# Altium integrated library pca10056.IntLib: 67 symbols
Pins are listed as number, name and electrical type; pins without a type are passive.

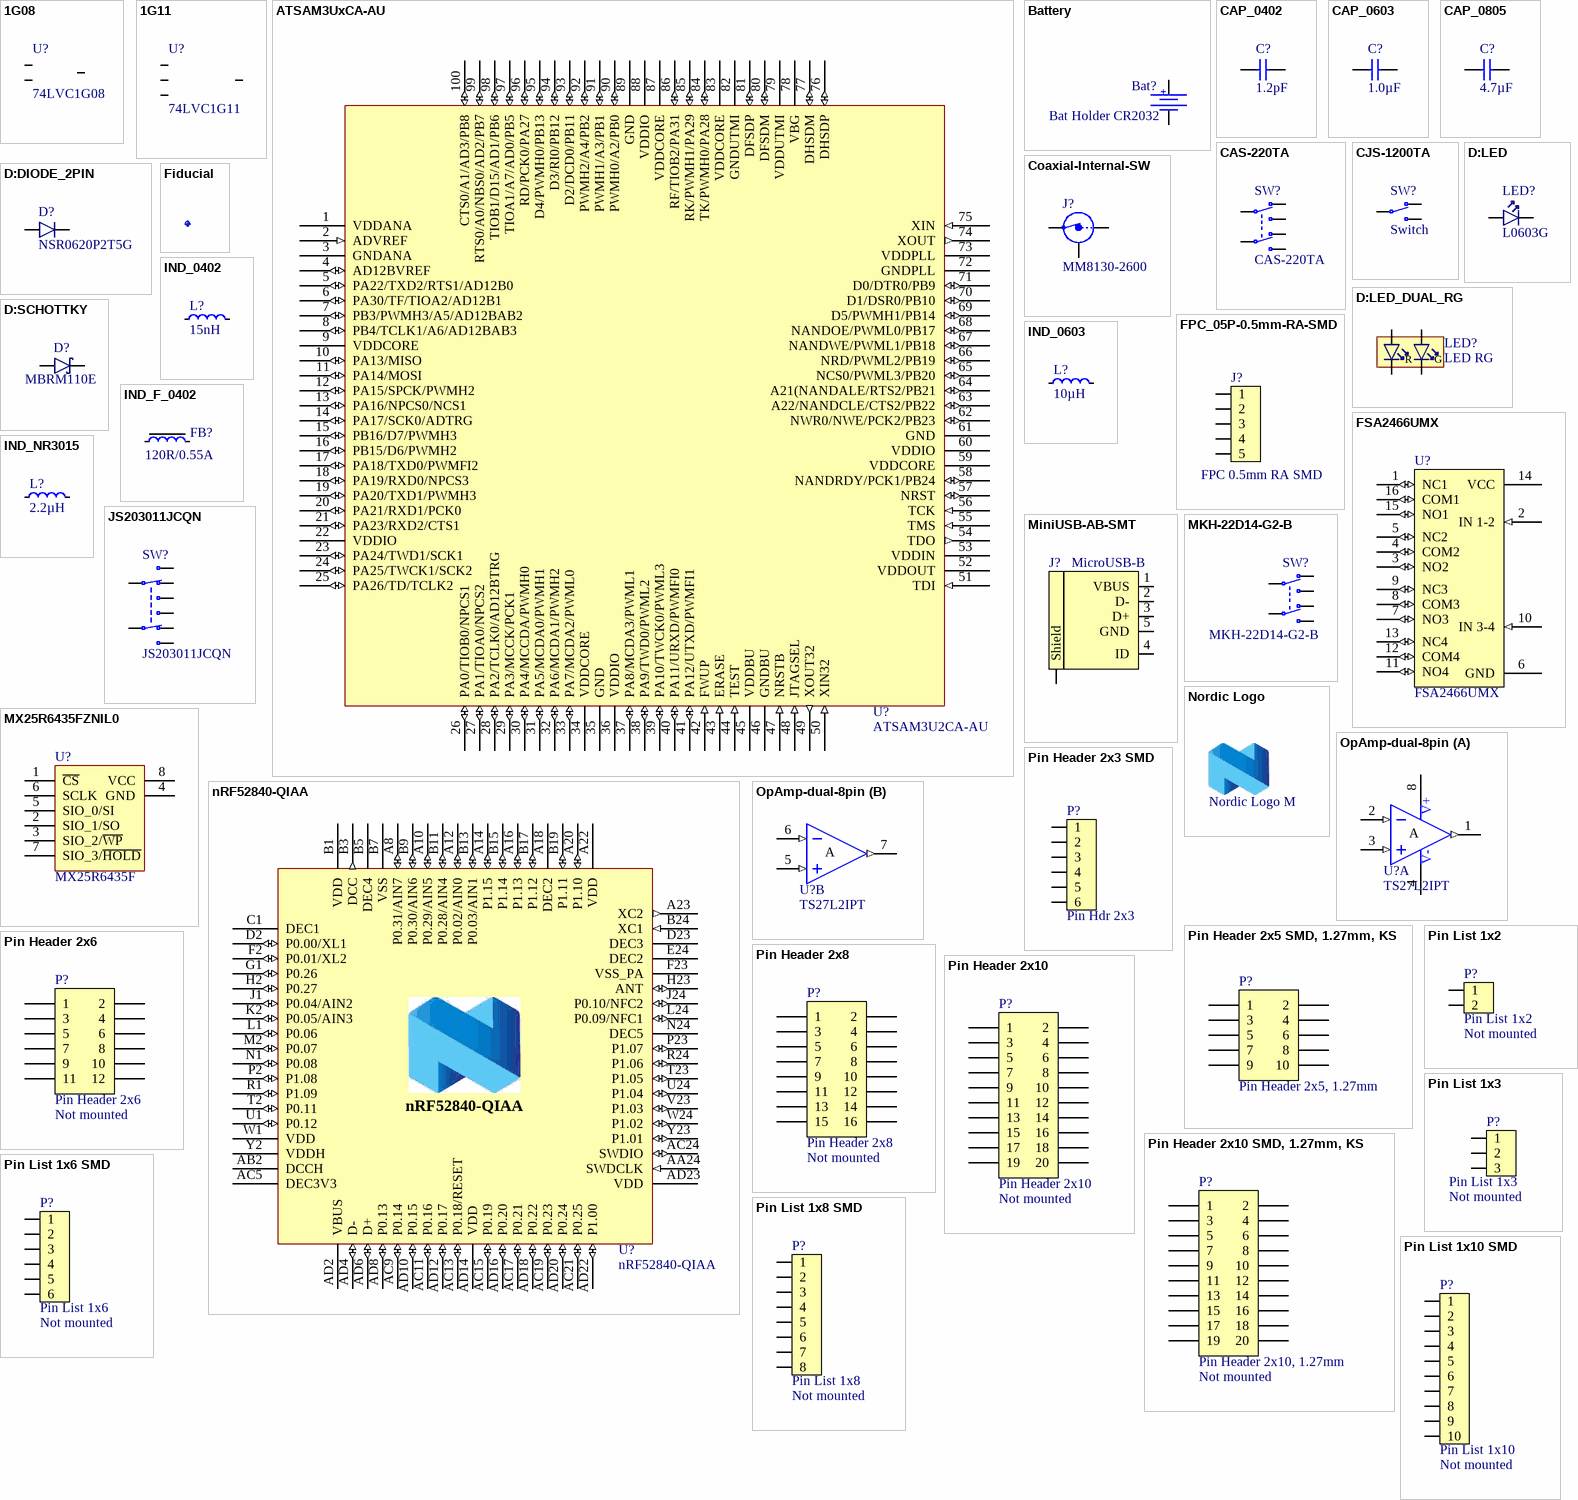
[diagram p0: symbols 1G08 to Pin List 1x10 SMD]

## 1G08
designator U?, comment 74LVC1G08
Single 2-Input AND Gate; Part Number: 74LVC1G08GW; Manufacturer: NXP Semiconductors; 2nd source part number: 242-8299; Artikkelnr Noca: 15049058; Artikkelnr Simpro: N.A.; Manufacturer Part Number: 74LVC1G08GW; Datasheet: http://www.nxp.com/documents/data_sheet/74LVC1G08.pdf; Footprint Doc: SC70-5; LatestRevisionDate: 2016-10-18; Pin Count: 5; Publisher: Nordic Semiconductor; Published: 2016-10-18; Value: 74LVC1G08; Note: Single 2-Input AND Gate; Supplier: Digi-Key; Supplier part number: 568-1580-1-ND; 2nd source Supplier: Farnell
footprint SOT65P210X100-5N
pins: 1 A, 2 B, 3 GND (power) hidden to GND "Ground", 4 Y, 5 VCC (power) hidden to VSUPPLY

## 1G11
designator U?, comment 74LVC1G11
Single 3-input AND gate; Part Number: 74LVC1G11GW; Manufacturer: NXP Semiconductors; 2nd source part number: 243-8826; Artikkelnr Noca: 15079348; Artikkelnr Simpro: N.A.; Manufacturer Part Number: 74LVC1G11GW; Datasheet: http://www.nxp.com/documents/data_sheet/74LVC1G11.pdf; Footprint Doc: SC70-6; LatestRevisionDate: 2016-10-18; Pin Count: 6; Publisher: Nordic Semiconductor; Published: 2016-10-18; Value: 74LVC1G11; Note: Single 3-input AND gate; Supplier: Digi-Key; Supplier part number: 568-7757-1-ND; 2nd source Supplier: Farnell
footprint SOT65P210X100-6N
pins: 1 A, 2 GND (power) hidden to GND "Ground", 3 B, 4 Y, 5 VCC (power) hidden to VSUPPLY, 6 C

## ATSAM3UxCA-AU
designator U?, comment ATSAM3U2CA-AU
IC MCU 32bit 128kB flash 100LQFP; Manufacturer: Atmel; 2nd source part number: 184-1662; Artikkelnr Noca: 15019073; Artikkelnr Simpro: N.A.; Part Number: ATSAM3U2CA-AU; Manufacturer Part Number: ATSAM3U2CA-AU; Datasheet: http://www.atmel.com/Images/6430s.pdf; LatestRevisionDate: 2012-06-01; Pin Count: 100; Publisher: Nordic Semiconductor; Published: 2012-06-01; Value: ATSAM3U2CA-AU; Note: *; Supplier: Digi-Key; Supplier part number: ATSAM3U2CA-AU-ND; 2nd source Supplier: Farnell; Footprint Doc: LQFP-100
footprint TSQFP50P1600X1600X160-100N
pins: 1 VDDANA (power), 2 ADVREF (in), 3 GNDANA (power), 4 AD12BVREF (io), 5 PA22/TXD2/RTS1/AD12B0 (io), 6 PA30/TF/TIOA2/AD12B1 (io), 7 PB3/PWMH3/A5/AD12BAB2 (io), 8 PB4/TCLK1/A6/AD12BAB3 (io), 9 VDDCORE (power), 10 PA13/MISO (io), 11 PA14/MOSI (io), 12 PA15/SPCK/PWMH2 (io), 13 PA16/NPCS0/NCS1 (io), 14 PA17/SCK0/ADTRG (io), 15 PB16/D7/PWMH3 (io), 16 PB15/D6/PWMH2 (io), 17 PA18/TXD0/PWMFI2 (io), 18 PA19/RXD0/NPCS3 (io), 19 PA20/TXD1/PWMH3 (io), 20 PA21/RXD1/PCK0 (io), 21 PA23/RXD2/CTS1 (io), 22 VDDIO (power), 23 PA24/TWD1/SCK1 (io), 24 PA25/TWCK1/SCK2 (io), 25 PA26/TD/TCLK2 (io), 26 PA0/TIOB0/NPCS1 (io), 27 PA1/TIOA0/NPCS2 (io), 28 PA2/TCLK0/AD12BTRG (io), 29 PA3/MCCK/PCK1 (io), 30 PA4/MCCDA/PWMH0 (io), 31 PA5/MCDA0/PWMH1 (io), 32 PA6/MCDA1/PWMH2 (io), 33 PA7/MCDA2/PWML0 (io), 34 VDDCORE (power), 35 GND (power), 36 VDDIO (power), 37 PA8/MCDA3/PWML1 (io), 38 PA9/TWD0/PWML2 (io), 39 PA10/TWCK0/PWML3 (io), 40 PA11/URXD/PWMFI0 (io), 41 PA12/UTXD/PWMFI1 (io), 42 FWUP (in), 43 ERASE (in), 44 TEST (in), 45 VDDBU (power), 46 GNDBU (power), 47 NRSTB (in), 48 JTAGSEL (in), 49 XOUT32 (out), 50 XIN32 (in), 51 TDI (in), 52 VDDOUT (power), 53 VDDIN (power), 54 TDO (out), 55 TMS (in), 56 TCK (in), 57 NRST (io), 58 NANDRDY/PCK1/PB24 (io), 59 VDDCORE (power), 60 VDDIO (power), 61 GND (power), 62 NWR0/NWE/PCK2/PB23 (io), 63 A22/NANDCLE/CTS2/PB22 (io), 64 A21(NANDALE/RTS2/PB21 (io), 65 NCS0/PWML3/PB20 (io), 66 NRD/PWML2/PB19 (io), 67 NANDWE/PWML1/PB18 (io), 68 NANDOE/PWML0/PB17 (io), 69 D5/PWMH1/PB14 (io), 70 D1/DSR0/PB10 (io), 71 D0/DTR0/PB9 (io), 72 GNDPLL (power), 73 VDDPLL (power), 74 XOUT (out), 75 XIN (in), 76 DHSDP (io), 77 DHSDM (io), 78 VBG (power), 79 VDDUTMI (power), 80 DFSDM (io), 81 DFSDP (io), 82 GNDUTMI (power), 83 VDDCORE (power), 84 TK/PWMH0/PA28 (io), 85 RK/PWMH1/PA29 (io), 86 RF/TIOB2/PA31 (io), 87 VDDCORE (power), 88 VDDIO (power), 89 GND (power), 90 PWMH0/A2/PB0 (io), 91 PWMH1/A3/PB1 (io), 92 PWMH2/A4/PB2 (io), 93 D2/DCD0/PB11 (io), 94 D3/RI0/PB12 (io), 95 D4/PWMH0/PB13 (io), 96 RD/PCK0/PA27 (io), 97 TIOA1/A7/AD0/PB5 (io), 98 TIOB1/D15/AD1/PB6 (io), 99 RTS0/A0/NBS0/AD2/PB7 (io), 100 CTS0/A1/AD3/PB8 (io)

## Battery
designator Bat?, comment Bat Holder CR2032
Bat Holder CR2032 SMD; Manufacturer: Comfortable; Manufacturer Part Number: BC-2001; 2nd source part number: 165-0693; Artikkelnr Noca: 55089011; Artikkelnr Simpro: N.A.; Part Number: Bat Holder CR2032 SMD; Datasheet: \\hizz\pro\app9717\Datasheet\connectores\Comfortable\BC-2001.pdf; Footprint Doc: CR2032_HOLDER_SMD; LatestRevisionDate: 2016-04-21; Pin Count: 3; Publisher: Nordic Semiconductor; Published: 2009-12-12; Value: Bat Holder CR2032; Note: Bat Holder CR2032; Supplier: Cabcon; Supplier part number: BC-2001/T & R; 2nd source Supplier: Farnell
footprint CR2032_HOLDER_SMD
pins: 1, 2
text: +

## CAP_0402
designator C?, comment 1.2pF
Capacitor, NP0, ±0.1pF; Part Number: C0402-1.2p; Part number IPS: 00000005410; Note: 50V; Artikkelnr Noca: 20029157; Artikkelnr Simpro: N.A.; Manufacturer: *; Manufacturer Part Number: *; Datasheet: *; LatestRevisionDate: 2011-05-11; Pin Count: 2; Publisher: Nordic Semiconductor; Published: 2009-05-08; Value: 1.2pF; Supplier: *; Supplier part number: *; 2nd source Supplier: *; 2nd source part number: *; Footprint Doc: 0402
footprint CAPC1005X04L
pins: 1, 2

## CAP_0603
designator C?, comment 1.0µF
Capacitor, X7R, ±10%; Part Number: C0603-1µ0; Part number IPS: 00000000616; Note: 16V; Artikkelnr Noca: 20039335; Artikkelnr Simpro: N.A.; Manufacturer: *; Manufacturer Part Number: *; Datasheet: *; LatestRevisionDate: 2013-06-05; Pin Count: 2; Publisher: Nordic Semiconductor; Published: 2009-05-08; Value: 1.0µF; Supplier: *; Supplier part number: *; 2nd source Supplier: *; 2nd source part number: *; Footprint Doc: 0603
footprint CAPC1608X06L
pins: 1, 2

## CAP_0805
designator C?, comment 4.7µF
Capacitor, X5R, ±10%; Part Number: C0805-4µ7; Note: 16V; Artikkelnr Noca: 20039266; Artikkelnr Simpro: N.A.; Manufacturer: *; Manufacturer Part Number: *; Datasheet: *; Footprint Doc: 0805; LatestRevisionDate: 2013-06-04; Pin Count: 2; Publisher: Nordic Semiconductor; Published: 2009-08-21; Value: 4.7µF; Supplier: *; Supplier part number: *; 2nd source Supplier: *; 2nd source part number: *
footprint CAPC2012X11L
pins: 1, 2

## CAS-220TA
designator SW?
Slide Switch DPDT J Hook; Manufacturer: Copal Electronics Inc; Artikkelnr Noca: 50019042; Artikkelnr Simpro: N.A.; Part Number: CAS-220TA; Manufacturer Part Number: CAS-220TA; Datasheet: http://media.digikey.com/pdf/Data%20Sheets/COPAL%20Electronics%20PDFs/CAS%20SMD%20Slide%20Switch.pdf; Footprint Doc: CAS-220TA; LatestRevisionDate: 2010-02-18; Pin Count: 6; Publisher: Nordic Semiconductor; Published: 2010-02-18; Value: CAS-220TA; Note: *; Supplier: Digi-Key; Supplier part number: CAS220JTR-ND; 2nd source Supplier: *; 2nd source part number: *
footprint CAS-220TA
pins: 1 N.O-1, 2 COM-1, 3 N.C-1, 4 N.O-2, 5 COM-2, 6 N.C-2

## CJS-1200TA
designator SW?, comment Switch
SMD slide Switch (ON-ON); Part Number: CJS-1200TA; Manufacturer: Copal Electronics Inc; Artikkelnr Noca: 50019068; Artikkelnr Simpro: N.A.; Manufacturer Part Number: CJS-1200TA; Datasheet: http://media.digikey.com/pdf/Data%20Sheets/COPAL%20Electronics%20PDFs/CJS.pdf; Footprint Doc: CJS-120xA; LatestRevisionDate: 2012-10-03; Pin Count: 3; Publisher: Nordic Semiconductor; Published: 2012-10-03; Value: Switch; Note: *; Supplier: Digi-Key; Supplier part number: 563-1021-2-ND; 2nd source Supplier: *; 2nd source part number: *
footprint CJS-120xA
pins: 1 N.C, 2 COM, 3 N.O

## Coaxial-Internal-SW
designator J?, comment MM8130-2600
Coaxial Connector with Switch; Manufacturer: Murata; 2nd source part number: 81-MM8130-2600RA2; Artikkelnr Noca: 55029011; Artikkelnr Simpro: N.A.; Part Number: MM8130-2600; Manufacturer Part Number: MM8130-2600; Datasheet: http://www.murata.com/products/catalog/pdf/o33e.pdf; LatestRevisionDate: 2014-04-24; Pin Count: 3; Publisher: Nordic Semiconductor; Published: 2014-04-24; Value: MM8130-2600; Note: *; Supplier: Digi-Key; Supplier part number: 490-4981-1-ND; 2nd source Supplier: Mouser; Footprint Doc: COAXIAL-SWF
footprint COAXIAL-SWF
pins: 1 IN, 2 Shield, 3 OUT

## D:DIODE_2PIN
designator D?, comment NSR0620P2T5G
20V schottky barrier diode, Vf 350 mV @ 100 mA, Ir 2.0 µA @ 10 V, If 500 mA; Manufacturer: ON Semiconductor; Artikkelnr Noca: 10029169; Artikkelnr Simpro: N.A.; Part Number: NSR0620P2T5G; Manufacturer Part Number: NSR0620P2T5G; Datasheet: http://www.onsemi.com/pub_link/Collateral/NSR0620P2-D.PDF; LatestRevisionDate: 2016-07-07; Publisher: Nordic Semiconductor; Published: 2016-07-07; Value: NSR0620P2T5G; Note: *; Supplier: Digi-Key; Supplier part number: NSR0620P2T5GOSCT-ND; 2nd source Supplier: *; 2nd source part number: *; Footprint Doc: SOD-923
footprint SODFL100X40-2N
pins: 1 C, 2 A

## D:LED
designator LED?, comment L0603G
LED SMARTLED GREEN 570NM 0603; Part Number: LG L29K Smartled Green; Manufacturer: Osram; Manufacturer Part Number: LG L29K-G2J1-24-Z; 2nd source part number: 720-LGL29KG2J124Z; Note: 2,24..5.6 mcd, Vfmin=1.7V; Artikkelnr Noca: 13019147; Artikkelnr Simpro: N.A.; Datasheet: http://www.osram-os.com/Graphics/XPic2/00077107_0.pdf; Footprint Doc: 0603; LatestRevisionDate: 2016-08-26; Pin Count: 2; Publisher: Nordic Semiconductor; Published: 2014-10-28; Value: L0603G; Supplier: Digi-Key; Supplier part number: 475-2709-1-ND; 2nd source Supplier: Mouser
footprint LED_0603_G
pins: 1 C, 2 A

## D:LED_DUAL_RG
designator LED?, comment LED RG
Ultra bright AlInGaP Bi-Color LED; Part Number: LTST-C195KGJRKT; Manufacturer: Lite-On Inc; 2nd source part number: 859-LTST-C195KGJRKT; Artikkelnr Noca: 13019145; Artikkelnr Simpro: N.A.; Manufacturer Part Number: LTST-C195KGJRKT; Datasheet: http://media.digikey.com/pdf/Data%20Sheets/Lite-On%20PDFs/LTST-C195KGJRKT.pdf; LatestRevisionDate: 2013-02-11; Pin Count: 4; Publisher: Nordic Semiconductor; Published: 2012-07-05; Value: LED RG; Note: *; Supplier: Digi-Key; Supplier part number: 160-1452-1-ND; 2nd source Supplier: Mouser; Footprint Doc: LED_DUAL_0606
footprint LED_DUAL_0606
pins: 1 A2, 2 A1, 3 C2, 4 C1
text: R; G

## D:SCHOTTKY
designator D?, comment MBRM110E
Diode Schottky Vf=0.455V @ 100mA, Vr=10V, If=1000mA, Ir=1µA @ 10V; Manufacturer: ON Semiconductor; Manufacturer Part Number: MBRM110ET1G; 2nd source part number: 236-9429; Artikkelnr Noca: 10029172; Artikkelnr Simpro: N.A.; Part Number: MBRM110E; Datasheet: http://media.digikey.com/pdf/Data%20Sheets/ON%20Semiconductor%20PDFs/MBRM110E-D.pdf; Footprint Doc: DO-216AA; LatestRevisionDate: 2016-10-24; Publisher: Nordic Semiconductor; Published: 2016-10-24; Value: MBRM110E; Note: *; Supplier: Digi-Key; Supplier part number: MBRM110ET1GOSTR-ND; 2nd source Supplier: Farnell
footprint DO-216AA
pins: 1 A, 3 C

## Fiducial
designator Fid?, comment Fiducial mark  (value not drawn)
Part Number: Fid-Mark; Artikkelnr Noca: N.A.; Manufacturer: *; Manufacturer Part Number: *; Datasheet: *; LatestRevisionDate: 2009-12-12; Pin Count: 1; Publisher: Nordic Semiconductor; Published: 2009-12-12; Value: *; Note: *; Supplier: *; Supplier part number: *; 2nd source Supplier: *; 2nd source part number: *; Footprint Doc: Fiducial; Artikkelnr Simpro: N.A.
footprint Fiducial

## FPC_05P-0.5mm-RA-SMD
designator J?, comment FPC 0.5mm RA SMD
0.5mm FPC, 5P,Right Angle SMT,Double Contact,H=1.2mm,White, Tin plated; Part Number: FPC_05P-0.5mm-RA-SMD; Manufacturer: W-CON; Manufacturer Part Number: 5141-05RZDNWR01; 2nd source part number: WM9836CT-ND; Artikkelnr Noca: 55010020; Artikkelnr Simpro: N.A.; Datasheet: \\hizz\pro\app9717\Datasheet\connectores\W-CON\5141-XXRZDNXX0X.pdf; Footprint Doc: FPC_05P-0.5mm-RA-SMD; LatestRevisionDate: 2016-04-21; Pin Count: 7; Publisher: Nordic Semiconductor; Published: 2015-06-22; Value: FPC 0.5mm RA SMD; Note: *; Supplier: Cabcon; Supplier part number: 5141-05RZDNWR01; 2nd source Supplier: Digi-Key
footprint FPC_05P-0.5mm-RA-SMD
pins: 1, 2, 3, 4, 5

## FSA2466UMX
designator U?
Data / Audio Low-Voltage Dual DPDT Analog Switch; Manufacturer: Fairchild Semiconductor; 2nd source part number: 512-FSA2466UMX; Artikkelnr Noca: 15070069; Artikkelnr Simpro: N.A.; Part Number: FSA2466UMX; Manufacturer Part Number: FSA2466UMX; Datasheet: https://www.fairchildsemi.com/datasheets/FS/FSA2466.pdf; Footprint Doc: UFQFN-16; LatestRevisionDate: 2016-05-18; Pin Count: 16; Publisher: Nordic Semiconductor; Published: 2016-05-18; Value: FSA2466UMX; Note: *; Supplier: Digi-Key; Supplier part number: FSA2466UMXCT-ND; 2nd source Supplier: Mouser
footprint XQFN40P180X260X50-16N
pins: 1 NC1 (io), 2 IN 1-2 (in), 3 NO2 (io), 4 COM2 (io), 5 NC2 (io), 6 GND (power), 7 NO3 (io), 8 COM3 (io), 9 NC3 (io), 10 IN 3-4 (in), 11 NO4 (io), 12 COM4 (io), 13 NC4 (io), 14 VCC (power), 15 NO1 (io), 16 COM1 (io)

## IND_0402
designator L?, comment 15nH
Inductor, 320mA, ±5%; Part Number: L0402-15n; Manufacturer: Taiyo Yuden; Manufacturer Part Number: HK100515NJ-T; 2nd source part number: 658-1328; Note: High frequency chip inductor ±10%; Artikkelnr Noca: 33029323; Artikkelnr Simpro: N.A.; LatestRevisionDate: 2012-09-19; Pin Count: 2; Publisher: Nordic Semiconductor; Published: 2010-07-12; Value: 15nH; Supplier: Digi-Key; Datasheet: http://www.yuden.co.jp/productdata/catalog/en/mlci04_e.pdf; Supplier part number: 587-1521-1-ND; 2nd source Supplier: Farnell; Footprint Doc: 0402
footprint INDC1005X04L
pins: 1, 2

## IND_0603
designator L?, comment 10µH
Inductor, 80mA, ±10%; Part Number: L0603-10µ; Manufacturer: Taiyo Yuden; Manufacturer Part Number: LBMF1608T100K; 2nd source part number: 178-6105; Note: LBMF1608T100K 10µH 80mA 0603; Artikkelnr Noca: 33029314; Artikkelnr Simpro: N.A.; Datasheet: http://www.yuden.co.jp/ut/product/pdf/elb2_e.pdf; LatestRevisionDate: 2012-09-19; Pin Count: 2; Publisher: Nordic Semiconductor; Published: 2010-02-24; Value: 10µH; Supplier: Digi-Key; Supplier part number: 587-1714-1-ND; 2nd source Supplier: Farnell; Footprint Doc: 0603
footprint INDC1608X06L
pins: 1, 2

## IND_F_0402
designator FB?, comment 120R/0.55A
Ferrite Bead, 120 Ohm @ 100MHz, 500mA, 250 mOhm Max; Part Number: FB0402-120R@100M-500mA; Manufacturer: Murata; Manufacturer Part Number: BLM15AG121SN1D; 2nd source part number: 151-5760; Note: Chip EMIFIL Inductor Type Chip Ferrite Bead; Artikkelnr Noca: 33029317; Artikkelnr Simpro: N.A.; Datasheet: http://search.murata.co.jp/Ceramy/image/img/PDF/ENG/L0110S0100BLM15A_SN.pdf; Footprint Doc: 0402; LatestRevisionDate: 2014-01-10; Pin Count: 2; Publisher: Nordic Semiconductor; Published: 2011-11-14; Value: 120R/0.55A; Supplier: Digi-Key; Supplier part number: 490-1005-1-ND; 2nd source Supplier: Farnell
footprint INDC1005X04L
pins: 1, 2

## IND_NR3015
designator L?, comment 2.2µH
Ferrite Inductor, Shielded, 1,5A, 72mOhm; Part Number: NR3015-2µ2-1.5A-72mOhm; Manufacturer: Taiyo Yuden; Manufacturer Part Number: NR3015T2R2M; 2nd source part number: 188-5853; Artikkelnr Noca: 33029487; Artikkelnr Simpro: N.A.; Datasheet: http://www.yuden.co.jp/ut/product/category/inductor/NR3015T2R2M.pdf; Footprint Doc: 1212; LatestRevisionDate: 2014-01-22; Pin Count: 2; Publisher: Nordic Semiconductor; Published: 2014-01-22; Value: 2.2µH; Note: *; Supplier: Digi-Key; Supplier part number: 587-1648-1-ND; 2nd source Supplier: Farnell
footprint TY-NR3015
pins: 1, 2

## JS203011JCQN
designator SW?
Slide Switch DP3T 300mA 6V; Manufacturer: C&K Components; Artikkelnr Noca: 50019111; Artikkelnr Simpro: N.A.; Part Number: JS203011JCQN; Manufacturer Part Number: JS203011JCQN; Datasheet: http://www.ckswitches.com/media/1422/js.pdf; Footprint Doc: Switch-Slide-J-Lead-DP3T-13x3.5mm; LatestRevisionDate: 2016-10-05; Pin Count: 8; Publisher: Nordic Semiconductor; Published: 2016-10-05; Value: JS203011JCQN; Note: *; Supplier: Digi-Key; Supplier part number: CKN10725CT-ND; 2nd source Supplier: *; 2nd source part number: *
footprint Switch-Slide-J-Lead-DP3T-13x3.5mm
pins: 1 N.O, 2 N.C, 3 COM, 4 N.O, 5 N.O, 6 N.C, 7 COM, 8 N.O

## MiniUSB-AB-SMT
designator J?, comment MicroUSB-B
MicroUSB-B-SMT; Part Number: USB-Micro-B-RA-SMD-PiP; Manufacturer: Allen Creations Corp.; Manufacturer Part Number: AJU55-BS2111-L; 2nd source part number: 609-4616-1-ND; Artikkelnr Noca: 55029020; Artikkelnr Simpro: N.A.; Datasheet: \\hizz\pro\app9717\Datasheet\connectores\Allen Creations Corp\AJU-211.pdf; Footprint Doc: USB-Micro-B-RA-SMD-PiP; LatestRevisionDate: 2016-04-21; Pin Count: 5; Publisher: Nordic Semiconductor; Published: 2014-10-07; Value: MicroUSB-B; Note: *; Supplier: Cabcon; Supplier part number: AJU55-BS2111-L; 2nd source Supplier: Digi-Key
footprint USB-Micro-B-RA-SMD-PiP
pins: 1 VBUS (power), 2 D-, 3 D+, 4 ID, 5 GND (power), 6 Shield (power)

## MKH-22D14-G2-B
designator SW?
Slide Switch DPDT; Manufacturer: Dailywell; Artikkelnr Noca: 50019112; Artikkelnr Simpro: N.A.; Part Number: MKH-22D14-G2-B; Manufacturer Part Number: MKH-22D14-G2-B; Datasheet: \\hizz\pro\app9717\Datasheet\switches\Dailywell\MKH-22D14-G2-B.pdf; Footprint Doc: MKH-22D14-G2-B; LatestRevisionDate: 2016-08-18; Pin Count: 6; Publisher: Nordic Semiconductor; Published: 2016-08-18; Value: MKH-22D14-G2-B; Note: *; Supplier: *; Supplier part number: *; 2nd source Supplier: *; 2nd source part number: *
footprint MKH-22D14-G2-B
pins: 1 N.O-1, 2 COM-1, 3 N.C-1, 4 N.O-2, 5 COM-2, 6 N.C-2

## MX25R6435FZNIL0
designator U?, comment MX25R6435F
Ultra low power, 64M-bit, serial multi I/O flash memory; Part Number: MX25R6435FZNIL0; Manufacturer: Macronix; Artikkelnr Noca: 15020015; Artikkelnr Simpro: N.A.; Manufacturer Part Number: MX25R6435FZNIL0; Datasheet: http://www.macronix.com/Lists/Datasheet/Attachments/3881/MX25R6435F,%20Wide%20Range,%2064Mb,%20v1.3.pdf; Footprint Doc: WSON-8; LatestRevisionDate: 2016-06-29; Pin Count: 8; Publisher: Nordic Semiconductor; Published: 2016-06-29; Value: MX25R6435F; Note: *; Supplier: Future; Supplier part number: MX25R6435FZNIL0; 2nd source Supplier: Arrow; 2nd source part number: MX25R6435FZNIL0
footprint SON127P600X80_HS-9N
pins: 1 ~{CS}, 2 SIO_1/SO, 3 SIO_2/~{WP}, 4 GND, 5 SIO_0/SI, 6 SCLK, 7 SIO_3/~{HOLD}, 8 VCC, 9 GND hidden to GND

## Nordic Logo
designator LOGO?, comment Nordic Logo M  (no BOM)
Nordic Logo, medium size; Artikkelnr Noca: N.A.; Part Number: Nordic Logo M; Manufacturer: *; Manufacturer Part Number: *; Datasheet: *; LatestRevisionDate: 2016-09-07; Publisher: Nordic Semiconductor; Value: Nordic Logo M; Note: *; Supplier: *; Supplier part number: *; 2nd source Supplier: *; 2nd source part number: *; Pin Count: 0; Published: 2010-02-18; Footprint Doc: Segger Logo M; Artikkelnr Simpro: N.A.
footprint NORDIC_LOGO_M

## nRF52840-QIAA
designator U?
Multi-protocol Bluetooth Low Energy, ANT and 2.4GHz proprietary system-on-chip; Part Number: nRF52840-QIAAAA; Manufacturer: Nordic Semiconductor; Artikkelnr Noca: 15079344; Artikkelnr Simpro: N.A.; Manufacturer Part Number: nRF52840-QIAAAA; Datasheet: *; LatestRevisionDate: 2016-06-28; Pin Count: 73; Publisher: Nordic Semiconductor; Published: 2016-06-22; Value: nRF52840-QIAA; Note: *; Supplier: Nordic Semiconductor; Supplier part number: nRF52840-QIAAAA; 2nd source Supplier: *; 2nd source part number: *; Footprint Doc: AQFN-73
footprint AQFN50P700X700X85_HS-74N
pins: 74 GND (power) hidden to GND, A8 P0.31/AIN7 (io), A10 P0.29/AIN5 (io), A12 P0.02/AIN0 (io), A14 P1.15 (io), A16 P1.13 (io), A18 DEC2 (power), A20 P1.10 (io), A22 VDD (power), A23 XC2 (out), AA24 SWDCLK (in), AB2 DCCH (power), AC5 DEC3V3 (power), AC9 P0.14 (io), AC11 P0.16 (io), AC13 P0.18/RESET (io), AC15 P0.19 (io), AC17 P0.21 (io), AC19 P0.23 (io), AC21 P0.25 (io), AC24 SWDIO (io), AD2 VBUS (power), AD4 D- (io), AD6 D+ (io), AD8 P0.13 (io), AD10 P0.15 (io), AD12 P0.17 (io), AD14 VDD (power), AD16 P0.20 (io), AD18 P0.22 (io), AD20 P0.24 (io), AD22 P1.00 (io), AD23 VDD (power), B1 VDD (power), B3 DCC (out), B5 DEC4 (power), B7 VSS (power), B9 P0.30/AIN6 (io), B11 P0.28/AIN4 (io), B13 P0.03/AIN1 (io), B15 P1.14 (io), B17 P1.12 (io), B19 P1.11 (io), B24 XC1 (in), C1 DEC1 (power), D2 P0.00/XL1 (io), D23 DEC3 (power), E24 DEC2 (power), F2 P0.01/XL2 (io), F23 VSS_PA (power), G1 P0.26 (io), H2 P0.27 (io), H23 ANT (io), J1 P0.04/AIN2 (io), J24 P0.10/NFC2 (io), K2 P0.05/AIN3 (io), L1 P0.06 (io), L24 P0.09/NFC1 (io), M2 P0.07 (io), N1 P0.08 (io), N24 DEC5 (power), P2 P1.08 (io), P23 P1.07 (io), R1 P1.09 (io), R24 P1.06 (io), T2 P0.11 (io), T23 P1.05 (io), U1 P0.12 (io), U24 P1.04 (io), V23 P1.03 (io), W1 VDD (power), W24 P1.02 (io), Y2 VDDH (power), Y23 P1.01 (io)

## OpAmp-dual-8pin
designator U?, comment TS27L2IPT
Precision very low power CMOS dual operational amplifier; Manufacturer: STMicroelectronics; Artikkelnr Noca: 17010019; Artikkelnr Simpro: N.A.; Part Number: TS27L2IPT; Manufacturer Part Number: TS27L2IPT; Datasheet: http://www.st.com/content/ccc/resource/technical/document/datasheet/38/5b/ca/bd/c0/26/4a/34/CD00000880.pdf/files/CD00000880.pdf/jcr:content/translations/en.CD00000880.pdf; Footprint Doc: TSSOP-8; LatestRevisionDate: 2016-07-07; Pin Count: 8; Publisher: Nordic Semiconductor; Published: 2016-07-07; Value: TS27L2IPT; Note: *; Supplier: Digi-Key; Supplier part number: 497-8085-1-ND; 2nd source Supplier: *; 2nd source part number: *
footprint TSOP65P640X120-8N
part A pins: 1 OUT1 (out), 2 IN1- (in), 3 IN1+ (in), 4 V- (power), 8 V+ (power)
part B pins: 5 IN2+ (in), 6 IN2- (in), 7 OUT2 (out)
part A text: A
part B text: A

## Pin Header 2x3 SMD
designator P?, comment Pin Hdr 2x3
Pin Header 2x3, 2.54mm (100mil) SMD; Part Number: Pin Header 2x3 SMD; Manufacturer: W-CON; Manufacturer Part Number: 1125-1203S0M116R1; 2nd source part number: TSM-103-01-L-DV; Artikkelnr Noca: 55010007; Artikkelnr Simpro: N.A.; Datasheet: \\hizz\pro\app9717\Datasheet\connectores\W-CON\1125-12XXXXMXXXXX.PDF; Footprint Doc: HDR_2x3-SMD; LatestRevisionDate: 2016-01-22; Pin Count: 6; Publisher: Nordic Semiconductor; Published: 2016-01-22; Value: Pin Hdr 2x3; Note: SMD; Supplier: Cabcon; Supplier part number: 1125-1203S0M116R1; 2nd source Supplier: Samtec
footprint HDR_2x3-SMD
pins: 1, 2, 3, 4, 5, 6

## Pin Header 2x5 SMD, 1.27mm, KS
designator P?, comment Pin Header 2x5, 1.27mm
Pin Header 2x5, 1.27mm (50mil), SMD, Keying Shroud; Part Number: Pin Header 2x5 SMD, 1.27mm, KS; Manufacturer: W-CON; Manufacturer Part Number: 3132-10MS0BK00R1; 2nd source part number: FTSH-105-01-F-DV-K; Artikkelnr Noca: 55010009; Artikkelnr Simpro: N.A.; Datasheet: \\hizz\pro\app9717\Datasheet\connectores\W-CON\3132-XXMXXBK00XX.pdf; Footprint Doc: HDR_2x5-SMD-1.27mm; LatestRevisionDate: 2016-04-21; Pin Count: 10; Publisher: Nordic Semiconductor; Published: 2016-01-22; Value: Pin Header 2x5, 1.27mm; Note: *; Supplier: Cabcon; Supplier part number: 3132-10MS0BK00R1; 2nd source Supplier: Samtec
footprint HDR_2x5-SMD-1.27mm-K
pins: 1, 2, 3, 4, 5, 6, 7, 8, 9, 10

## Pin Header 2x6
designator P?  Assembly: Not mounted
Pin Header 2x6, 2.54mm (100mil); Artikkelnr Noca: N.A.; Part Number: Pin Header 2x6; Manufacturer: *; Manufacturer Part Number: *; Datasheet: *; Footprint Doc: HDR_2x6; LatestRevisionDate: 2014-07-04; Pin Count: 12; Publisher: Nordic Semiconductor; Published: 2009-12-12; Value: Pin Header 2x6; Note: *; Supplier: *; Supplier part number: *; 2nd source Supplier: *; 2nd source part number: *; Artikkelnr Simpro: N.A.
footprint HDR_2x6
pins: 1, 2, 3, 4, 5, 6, 7, 8, 9, 10, 11, 12

## Pin Header 2x8
designator P?  Assembly: Not mounted
Pin Header 2x8, 2.54mm (100mil); Artikkelnr Noca: N.A.; Part Number: Pin Header 2x8; Manufacturer: *; Manufacturer Part Number: *; Datasheet: *; Footprint Doc: HDR_2x8; LatestRevisionDate: 2009-12-12; Pin Count: 16; Publisher: Nordic Semiconductor; Published: 2009-12-12; Value: Pin Header 2x8; Note: *; Supplier: *; Supplier part number: *; 2nd source Supplier: *; 2nd source part number: *; Artikkelnr Simpro: N.A.
footprint HDR_2x8
pins: 1, 2, 3, 4, 5, 6, 7, 8, 9, 10, 11, 12, 13, 14, 15, 16

## Pin Header 2x10
designator P?  Assembly: Not mounted
Pin Header 2x10, 2.54mm (100mil); Artikkelnr Noca: N.A.; Part Number: Pin Header 2x10; Manufacturer: *; Manufacturer Part Number: *; Datasheet: *; Footprint Doc: HDR_2x10; LatestRevisionDate: 2014-07-04; Pin Count: 20; Publisher: Nordic Semiconductor; Published: 2009-12-12; Value: Pin Header 2x10; Note: *; Supplier: *; Supplier part number: *; 2nd source Supplier: *; 2nd source part number: *; Artikkelnr Simpro: N.A.
footprint HDR_2x10
pins: 1, 2, 3, 4, 5, 6, 7, 8, 9, 10, 11, 12, 13, 14, 15, 16, 17, 18, 19, 20

## Pin Header 2x10 SMD, 1.27mm, KS
designator P?, comment Pin Header 2x10, 1.27mm  Assembly: Not mounted
Pin Header 2x10, 1.27mm (50mil), SMD, Keying Shroud; Part Number: Pin Header 2x10 SMD, 1.27mm, KS; Manufacturer: Samtec; Manufacturer Part Number: FTSH-110-01-F-DV-K; Artikkelnr Noca: N.A.; Datasheet: http://www.digikey.com/product-search/en?vendor=0&keywords=FTSH-110-01-F-DV-K; LatestRevisionDate: 2016-04-21; Pin Count: 20; Publisher: Nordic Semiconductor; Published: 2014-05-23; Value: Pin Header 2x10, 1.27mm; Note: *; Supplier: Digi-Key; Supplier part number: FTSH-110-01-F-DV-K-ND; 2nd source Supplier: *; 2nd source part number: *; Footprint Doc: HDR_2x10-SMD-1.27mm; Artikkelnr Simpro: N.A.
footprint HDR_2x10-SMD-1.27mm-K
pins: 1, 2, 3, 4, 5, 6, 7, 8, 9, 10, 11, 12, 13, 14, 15, 16, 17, 18, 19, 20

## Pin List 1x2
designator P?  Assembly: Not mounted
Pin List 1x2, 2.54mm (100mil); Artikkelnr Noca: 56019040; Artikkelnr Simpro: N.A.; Part Number: Pin List 1x2; Manufacturer: *; Manufacturer Part Number: *; Datasheet: *; Footprint Doc: LIST_1x2; LatestRevisionDate: 2009-12-12; Pin Count: 2; Publisher: Nordic Semiconductor; Published: 2009-12-12; Value: Pin List 1x2; Note: *; Supplier: *; Supplier part number: *; 2nd source Supplier: *; 2nd source part number: *
footprint LIST_1x2
pins: 1, 2

## Pin List 1x3
designator P?  Assembly: Not mounted
Pin List 1x3, 2.54mm (100mil); Artikkelnr Noca: 56019041; Artikkelnr Simpro: N.A.; Part Number: Pin List 1x3; Manufacturer: *; Manufacturer Part Number: *; Datasheet: *; Footprint Doc: LIST_1x3; LatestRevisionDate: 2009-12-12; Pin Count: 3; Publisher: Nordic Semiconductor; Published: 2009-12-12; Value: Pin List 1x3; Note: *; Supplier: *; Supplier part number: *; 2nd source Supplier: *; 2nd source part number: *
footprint LIST_1x3
pins: 1, 2, 3

## Pin List 1x6 SMD
designator P?, comment Pin List 1x6  Assembly: Not mounted
Pin List 1x6, 2.54mm (100mil), SMD; Part Number: Pin List 1x6 SMD; Manufacturer: W-CON; Manufacturer Part Number: 1125-1106S0M116R2; 2nd source part number: TSM-106-01-L-SV-P-TR; Artikkelnr Noca: 55010026; Artikkelnr Simpro: N.A.; Datasheet: \\hizz\pro\app9717\Datasheet\connectores\W-CON\1125-11XXXXMXXXXX.pdf; LatestRevisionDate: 2016-03-29; Pin Count: 6; Publisher: Nordic Semiconductor; Published: 2016-03-29; Value: Pin List 1x6; Note: *; Supplier: Cabcon; Supplier part number: 1125-1106S0M116R2; 2nd source Supplier: Samtec; Footprint Doc: LIST_1x6_SMD
footprint LIST_1x6_SMD
pins: 1, 2, 3, 4, 5, 6

## Pin List 1x8 SMD
designator P?, comment Pin List 1x8  Assembly: Not mounted
Pin List 1x8, 2.54mm (100mil), SMD; Part Number: Pin List 1x8 SMD; Manufacturer: W-CON; Manufacturer Part Number: 1125-1108S0M116R2; 2nd source part number: TSM-108-01-L-SV-P-TR; Artikkelnr Noca: 55010006; Artikkelnr Simpro: N.A.; Datasheet: \\hizz\pro\app9717\Datasheet\connectores\W-CON\1125-11XXXXMXXXXX.pdf; LatestRevisionDate: 2016-01-22; Publisher: Nordic Semiconductor; Published: 2016-01-22; Value: Pin List 1x8; Note: *; Supplier: Cabcon; Supplier part number: 1125-1108S0M116R2; 2nd source Supplier: Samtec; Pin Count: 8; Footprint Doc: LIST_1x8_SMD
footprint LIST_1x8_SMD
pins: 1, 2, 3, 4, 5, 6, 7, 8

## Pin List 1x10 SMD
designator P?, comment Pin List 1x10  Assembly: Not mounted
Pin List 1x10, 2.54mm (100mil), SMD; Part Number: Pin List 1x10 SMD; Manufacturer: W-CON; Manufacturer Part Number: 1125-1110S0M116R2; 2nd source part number: TSM-110-01-L-SV-P-TR; Artikkelnr Noca: 55010028; Artikkelnr Simpro: N.A.; Datasheet: \\hizz\pro\app9717\Datasheet\connectores\W-CON\1125-11XXXXMXXXXX.pdf; LatestRevisionDate: 2016-03-29; Publisher: Nordic Semiconductor; Published: 2016-03-29; Value: Pin List 1x10; Note: *; Supplier: Cabcon; Supplier part number: 1125-1110S0M116R2; 2nd source Supplier: Samtec; Pin Count: 10; Footprint Doc: LIST_1x10_SMD
footprint LIST_1x10_SMD
pins: 1, 2, 3, 4, 5, 6, 7, 8, 9, 10

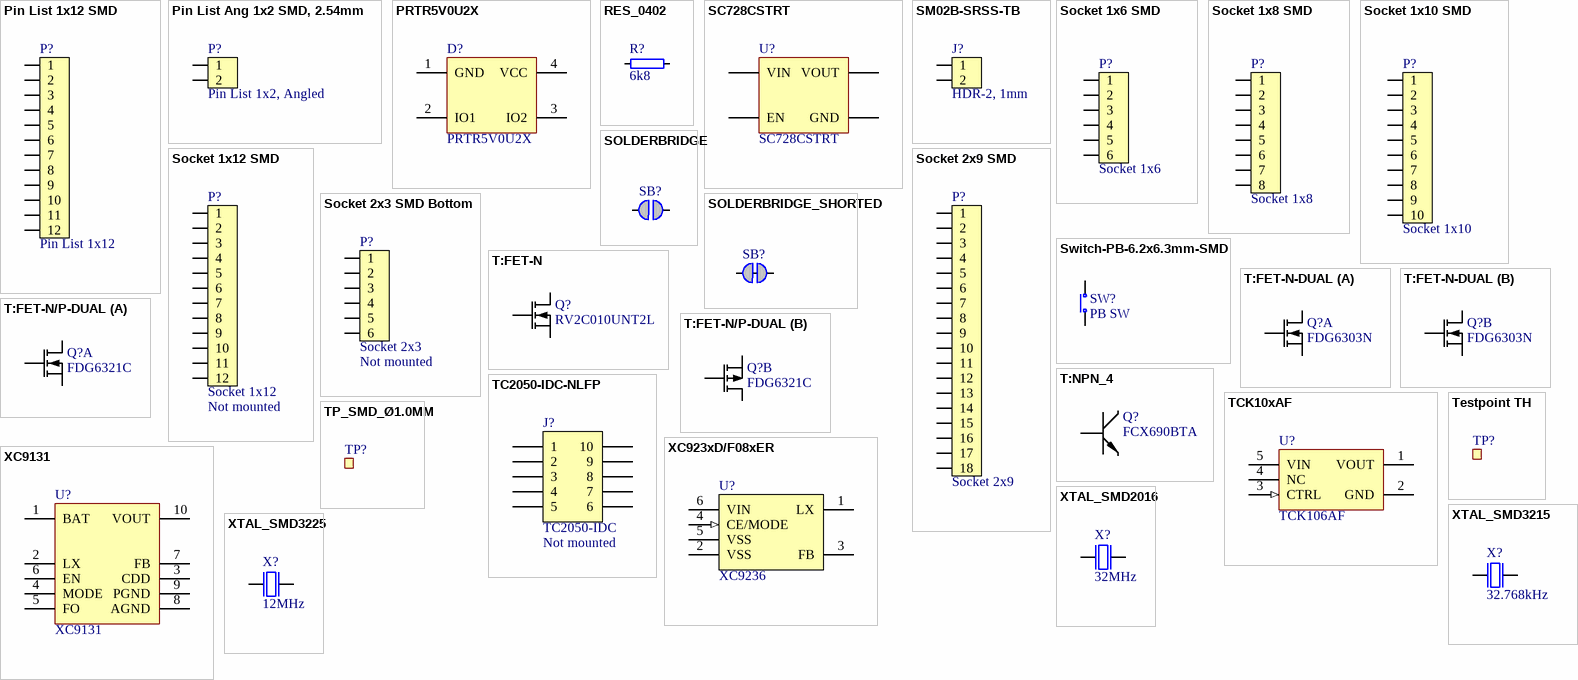
[diagram p1: symbols Pin List 1x12 SMD to XTAL_SMD3225]

## Pin List 1x12 SMD
designator P?, comment Pin List 1x12
Pin List 1x12, 2.54mm (100mil), SMD; Part Number: Pin List 1x12 SMD; Artikkelnr Noca: 55019293; Artikkelnr Simpro: N.A.; Manufacturer: *; Manufacturer Part Number: *; Datasheet: *; Footprint Doc: LIST_1x12_SMD; LatestRevisionDate: 2015-11-10; Pin Count: 12; Publisher: Nordic Semiconductor; Published: 2015-11-10; Value: Pin List 1x12; Note: *; Supplier: Samtec; Supplier part number: TSM-112-01-L-SV-P-TR; 2nd source Supplier: *; 2nd source part number: *
footprint LIST_1x12_SMD
pins: 1, 2, 3, 4, 5, 6, 7, 8, 9, 10, 11, 12

## Pin List Ang 1x2 SMD, 2.54mm
designator P?, comment Pin List 1x2, Angled
Pin List 1x2, 2.54mm (100mil), Right Angled, SMD; Part Number: Pin List Ang 1x2 SMD, 2.54mm; Manufacturer: W-CON; Manufacturer Part Number: 1125B-1102S0Z135R2; 2nd source part number: TSM-102-01-L-SH-A; Artikkelnr Noca: 55010023; Artikkelnr Simpro: N.A.; Datasheet: \\hizz\pro\app9717\Datasheet\connectores\W-CON\1125B-11XXXXZXXXXX.pdf; Footprint Doc: LIST_ANG_1x2-SMD-2.54MM; LatestRevisionDate: 2016-05-26; Pin Count: 2; Publisher: Nordic Semiconductor; Published: 2016-01-22; Value: Pin List 1x2, Angled; Note: *; Supplier: Cabcon; Supplier part number: 1125B-1102S0Z135R2; 2nd source Supplier: Samtec
footprint LIST_ANG_1x2-SMD-2.54MM
pins: 1, 2

## PRTR5V0U2X
designator D?
Ultra low capacitance double rail-to-rail ESD protection diode; Manufacturer: NXP; 2nd source part number: 152-4157; Artikkelnr Noca: 10069015; Artikkelnr Simpro: N.A.; Part Number: PRTR5V0U2X; Manufacturer Part Number: PRTR5V0U2X; Datasheet: http://www.farnell.com/datasheets/109718.pdf; LatestRevisionDate: 2012-06-11; Publisher: Nordic Semiconductor; Published: 2012-06-11; Value: PRTR5V0U2X; Note: *; Supplier: Digi-Key; Supplier part number: 568-4140-1-ND; 2nd source Supplier: Farnell; Footprint Doc: SOT-143B
footprint SOT190P230X110-4L
pins: 1 GND, 2 IO1, 3 IO2, 4 VCC

## RES_0402
designator R?, comment 6k8
Resistor, ±1%, 0.063W; Part Number: R0402-6k8; Note: Chip Res 1%; Artikkelnr Noca: 27049093; Artikkelnr Simpro: N.A.; Value Ohm: 6800; Manufacturer: *; Manufacturer Part Number: *; Datasheet: *; LatestRevisionDate: 2009-11-23; Pin Count: 2; Publisher: Nordic Semiconductor; Published: 2009-05-08; Value: 6k8; Supplier: Farnell; Supplier part number: 173-8862; 2nd source Supplier: *; 2nd source part number: *; Footprint Doc: 0402
footprint RESC1005X04L
pins: 1, 2

## SC728CSTRT
designator U?
Semtech, 2A Low Vin, Very Low Ron, Load Switch, 4DSBGA; Manufacturer: Semtech Corporation; 2nd source part number: 947-SC728CSTRT; Artikkelnr Noca: 15070081; Artikkelnr Simpro: N.A.; Part Number: SC728CSTRT; Manufacturer Part Number: SC728CSTRT; Datasheet: http://www.semtech.com/images/datasheet/sc728.pdf; Footprint Doc: WCSP-4; LatestRevisionDate: 2015-01-01; Pin Count: 4; Publisher: Nordic Semiconductor; Published: 2016-06-16; Value: SC728CSTRT; Note: *; Supplier: Digi-Key; Supplier part number: SC728CSTRTCT-ND; 2nd source Supplier: Mouser
footprint BGA4C40P2X2_76X76X62
pins: A1 VOUT, A2 VIN, B1 GND, B2 EN

## SM02B-SRSS-TB
designator J?, comment HDR-2, 1mm
1.0mm pitch connector side entry SMD; Part Number: SM02B-SRSS-TB; Manufacturer: JST; Manufacturer Part Number: SM02B-SRSS-TB(LF)(SN); Note: JST, Header; Artikkelnr Noca: 55010030; Artikkelnr Simpro: N.A.; Datasheet: http://www.jst-mfg.com/product/pdf/eng/eSH.pdf; Footprint Doc: SM02B-SRSS-TB; LatestRevisionDate: 2016-06-20; Pin Count: 2; Publisher: Nordic Semiconductor; Published: 2016-06-20; Value: HDR-2, 1mm; Supplier: Digi-Key; Supplier part number: 455-1802-1-ND; 2nd source Supplier: *; 2nd source part number: *
footprint SM02B-SRSS-TB
pins: 1, 2

## Socket 1x6 SMD
designator P?, comment Socket 1x6
Socket 1x6, 2.54mm (100mil), SMD; Part Number: Socket 1x6 SMD; Manufacturer: W-CON; Manufacturer Part Number: 2171-106MS0CUNR1; 2nd source part number: SSM-106-F-SV-P-TR; Artikkelnr Noca: 55030001; Artikkelnr Simpro: N.A.; Datasheet: *; Footprint Doc: SOCKET_1x6_SMD; LatestRevisionDate: 2016-01-22; Pin Count: 6; Publisher: Nordic Semiconductor; Published: 2016-01-22; Value: Socket 1x6; Note: *; Supplier: Cabcon; Supplier part number: 2171-106MS0CUNR1; 2nd source Supplier: Samtec
footprint SOCKET_1x6_SMD
pins: 1, 2, 3, 4, 5, 6

## Socket 1x8 SMD
designator P?, comment Socket 1x8
Socket 1x8, 2.54mm (100mil), SMD; Part Number: Socket 1x8 SMD; Manufacturer: W-CON; Manufacturer Part Number: 2171-108MS0CUNR1; 2nd source part number: SSM-108-F-SV-P-TR; Artikkelnr Noca: 55030002; Artikkelnr Simpro: N.A.; Datasheet: *; Footprint Doc: SOCKET_1x8_SMD; LatestRevisionDate: 2016-01-22; Pin Count: 8; Publisher: Nordic Semiconductor; Published: 2016-01-22; Value: Socket 1x8; Note: *; Supplier: Cabcon; Supplier part number: 2171-108MS0CUNR1; 2nd source Supplier: Samtec
footprint SOCKET_1x8_SMD
pins: 1, 2, 3, 4, 5, 6, 7, 8

## Socket 1x10 SMD
designator P?, comment Socket 1x10
Socket 1x10, 2.54mm (100mil), SMD; Part Number: Socket 1x10 SMD; Manufacturer: W-CON; Manufacturer Part Number: 2171-110MS0CUNR1; 2nd source part number: SSM-110-F-SV-P-TR; Artikkelnr Noca: 55030004; Artikkelnr Simpro: N.A.; Datasheet: *; Footprint Doc: SOCKET_1x10_SMD; LatestRevisionDate: 2016-01-22; Pin Count: 10; Publisher: Nordic Semiconductor; Published: 2016-01-22; Value: Socket 1x10; Note: *; Supplier: Cabcon; Supplier part number: 2171-110MS0CUNR1; 2nd source Supplier: Samtec
footprint SOCKET_1x10_SMD
pins: 1, 2, 3, 4, 5, 6, 7, 8, 9, 10

## Socket 1x12 SMD
designator P?, comment Socket 1x12  Assembly: Not mounted
Socket 1x12, 2.54mm (100mil), SMD; Part Number: Socket 1x12 SMD; Manufacturer: Samtec; Manufacturer Part Number: SSM-109-L-SV; Artikkelnr Noca: N.A.; Datasheet: *; Footprint Doc: SOCKET_1x12_SMD; LatestRevisionDate: 2016-07-07; Pin Count: 12; Publisher: Nordic Semiconductor; Published: 2016-07-07; Value: Socket 1x12; Note: *; Supplier: *; Supplier part number: *; 2nd source Supplier: Samtec; 2nd source part number: SSM-109-L-SV; Artikkelnr Simpro: N.A.
footprint SOCKET_1x12_SMD
pins: 1, 2, 3, 4, 5, 6, 7, 8, 9, 10, 11, 12

## Socket 2x3 SMD Bottom
designator P?, comment Socket 2x3  Assembly: Not mounted
Socket 2x3, 2.54mm (100mil), SMD; Part Number: Socket 2x3 SMD Bottom; Manufacturer: W-CON; Manufacturer Part Number: 2171-203MS0CUNR1; 2nd source part number: SSM-103-F-DV-P-TR; Artikkelnr Noca: 55030010; Artikkelnr Simpro: N.A.; Datasheet: \\hizz\pro\app9717\Datasheet\connectores\W-CON\2171-2XXMXXCUNXX.pdf; LatestRevisionDate: 2016-03-29; Pin Count: 6; Publisher: Nordic Semiconductor; Published: 2014-06-10; Value: Socket 2x3; Note: *; Supplier: Cabcon; Supplier part number: 2171-203MS0CUNR1; 2nd source Supplier: Samtec; Footprint Doc: SOCKET_2x3_SMD-2.54mm-bottom
footprint SOCKET_2x3_SMD-2.54mm-bottom
pins: 1, 2, 3, 4, 5, 6

## Socket 2x9 SMD
designator P?, comment Socket 2x9
Socket 2x9, 2.54mm (100mil), SMD; Part Number: Socket 2x9 SMD; Manufacturer: Samtec; Manufacturer Part Number: SSM-109-F-DV; Artikkelnr Noca: 55030011; Artikkelnr Simpro: N.A.; Datasheet: http://suddendocs.samtec.com/prints/ssm-1xx-xxx-dv-xx-xx-xxx-xx-mkt.pdf; Footprint Doc: SOCKET_2x9_SMD-2.54mm; LatestRevisionDate: 2016-07-07; Pin Count: 18; Publisher: Nordic Semiconductor; Published: 2016-07-07; Value: Socket 2x9; Note: *; Supplier: Samtec; Supplier part number: SSM-109-F-DV-P-TR
footprint SOCKET_2x9_SMD-2.54mm
pins: 1, 2, 3, 4, 5, 6, 7, 8, 9, 10, 11, 12, 13, 14, 15, 16, 17, 18

## SOLDERBRIDGE
designator SB?, comment Solderbridge  (value not drawn)  (no BOM)
Artikkelnr Noca: N.A.; Part Number: Solderbridge; Manufacturer: *; Manufacturer Part Number: *; Datasheet: *; LatestRevisionDate: 2009-12-14; Pin Count: 2; Publisher: Nordic Semiconductor; Published: 2009-12-14; Value: Solderbridge; Note: *; Supplier: *; Supplier part number: *; 2nd source Supplier: *; 2nd source part number: *; Footprint Doc: Solderbridge; Artikkelnr Simpro: N.A.
footprint Solderbridge
pins: 1 0, 2 1

## SOLDERBRIDGE_SHORTED
designator SB?, comment Solderbridge  (value not drawn)  (net tie, no BOM)
Shorted Solderbridge; Part Number: Solderbridge Shorted; Artikkelnr Noca: N.A.; Manufacturer: *; Manufacturer Part Number: *; Datasheet: *; LatestRevisionDate: 2012-08-07; Pin Count: 2; Publisher: Nordic Semiconductor; Published: 2012-08-07; Value: Solderbridge; Note: *; Supplier: *; Supplier part number: *; 2nd source Supplier: *; 2nd source part number: *; Footprint Doc: Solderbridge_Shorted; Artikkelnr Simpro: N.A.
footprint Solderbridge_Shorted
pins: 1 0, 2 1

## Switch-PB-6.2x6.3mm-SMD
designator SW?, comment PB SW
Tactile Switch, SPNO, SMD, 160gf, 6.2x6.3x2.5mm; Part Number: Switch-PB-6.2x6.3mm-SMD; Manufacturer: Dailywell; Manufacturer Part Number: TS604VM1-025BR-R; 2nd source part number: 688-SKHUALE010; Artikkelnr Noca: 50019106; Artikkelnr Simpro: N.A.; Datasheet: \\hizz\pro\app9717\Datasheet\switches\Dailywell\TS604VM1-025BR-R.pdf; Footprint Doc: Switch-PB-6.2x6.3mm-SMD; LatestRevisionDate: 2016-04-21; Pin Count: 4; Publisher: Nordic Semiconductor; Published: 2010-02-01; Value: PB SW; Note: *; Supplier: Cabcon; Supplier part number: TS604VM1-025BR-R; 2nd source Supplier: Mouser
footprint Switch-PB-6.2x6.3mm-SMD
pins: 1 N.O, 2 COM

## T:FET-N
designator Q?, comment RV2C010UNT2L
N-Channel MOSFET, 20V, 1A, 470mOhm, 400mW; Manufacturer: Rohm Semiconductor; 2nd source part number: 755-RV2C010UNT2L; Artikkelnr Noca: 35010020; Artikkelnr Simpro: N.A.; Part Number: RV2C010UNT2L; Manufacturer Part Number: RV2C010UNT2L; Datasheet: http://rohmfs.rohm.com/en/products/databook/datasheet/discrete/transistor/mosfet/rv2c010unt2l-e.pdf; LatestRevisionDate: 2016-08-09; Publisher: Nordic Semiconductor; Published: 2016-08-09; Value: RV2C010UNT2L; Note: *; Supplier: Digi-Key; Supplier part number: RV2C010UNT2LCT-ND; 2nd source Supplier: Mouser; Footprint Doc: DFN-3
footprint DFN65P100X40-3L
pins: 1 G, 2 S, 3 D

## T:FET-N-DUAL
designator Q?, comment FDG6303N
Fairchild, FDG6303N, Dual N-Channel Digital FET; 2nd source part number: FDG6303NCT-ND; Artikkelnr Noca: 35029086; Artikkelnr Simpro: N.A.; Part Number: FDG6303N; Manufacturer: Fairchild; Manufacturer Part Number: FDG6303N; Datasheet: http://www.fairchildsemi.com/ds/FD/FDG6303N.pdf; LatestRevisionDate: 2009-08-10; Pin Count: 6; Publisher: Nordic Semiconductor; Published: 2009-08-10; Value: FDG6303N; Note: Dual N-channel digital fet; Supplier: Farnell; Supplier part number: 161-1233; 2nd source Supplier: Digi-Key; Footprint Doc: SC70-6
footprint SOT65P210X100-6N
part A pins: 1 S1, 2 G1, 6 D1
part B pins: 3 D2, 4 S2, 5 G2

## T:FET-N/P-DUAL
designator Q?, comment FDG6321C
Fairchild, FDG6321C, Dual N & P Channel Digital FET; 2nd source part number: FDG6321CCT-ND; Artikkelnr Noca: 35029089; Artikkelnr Simpro: N.A.; Part Number: FDG6321C; Manufacturer: Fairchild; Manufacturer Part Number: FDG6321C; Datasheet: http://www.fairchildsemi.com/ds/FD/FDG6321C.pdf; LatestRevisionDate: 2011-05-11; Pin Count: 6; Publisher: Nordic Semiconductor; Published: 2009-09-16; Value: FDG6321C; Note: Dual N & P Channel Digital FET; Supplier: Farnell; Supplier part number: 170-0689; 2nd source Supplier: Digi-Key; Footprint Doc: SC70-6
footprint SOT65P210X100-6N
part A pins: 1 S1, 2 G1, 6 D1
part B pins: 3 D2, 4 S2, 5 G2

## T:NPN_4
designator Q?, comment FCX690BTA
45V NPN high gain power transistor; Manufacturer: Diodes Incorporated; Artikkelnr Noca: 35010019; Artikkelnr Simpro: N.A.; Part Number: FCX690BTA; Manufacturer Part Number: FCX690BTA; Datasheet: http://www.diodes.com/_files/datasheets/FCX690B.pdf; Footprint Doc: SOT-89; LatestRevisionDate: 2016-07-07; Publisher: Nordic Semiconductor; Published: 2016-07-07; Value: FCX690BTA; Note: *; Supplier: Digi-Key; Supplier part number: FCX690BCT-ND; 2nd source Supplier: *; 2nd source part number: *
footprint SOT89-150P409X160-3N
pins: 1 B, 2 C (power), 3 E (power)

## TC2050-IDC-NLFP
designator J?, comment TC2050-IDC  Assembly: Not mounted
CBL PLUG-OF-NAILS 10-PIN; Part Number: TC2050-IDC-NLFP; Manufacturer: Tag-Connect LLC; Artikkelnr Noca: N.A.; Manufacturer Part Number: TC2050-IDC-NLFP; Datasheet: http://www.tag-connect.com/Materials/TC2050-IDC%20Datasheet.pdf; LatestRevisionDate: 2012-11-21; Publisher: Nordic Semiconductor; Published: 2012-11-21; Value: TC2050-IDC; Supplier: Digi-Key; Supplier part number: TC2050-IDC-NL-ND; 2nd source Supplier: *; 2nd source part number: *; Pin Count: 10; Footprint Doc: TC2050-IDC-NLFP; Artikkelnr Simpro: N.A.
footprint TC2050-IDC-NLFP
pins: 1, 2, 3, 4, 5, 6, 7, 8, 9, 10

## TCK10xAF
designator U?, comment TCK106AF
1.0 A Load Switch IC with Slew Rate Control Driver in Small Package; Part Number: TCK106AF,LF; Manufacturer: Toshiba; Artikkelnr Noca: 15070086; Artikkelnr Simpro: N.A.; Manufacturer Part Number: TCK106AF,LF; Datasheet: https://toshiba.semicon-storage.com/info/docget.jsp?did=53240&prodName=TCK108AF; Footprint Doc: SOT-25; LatestRevisionDate: 2016-09-29; Pin Count: 5; Publisher: Nordic Semiconductor; Published: 2016-09-29; Value: TCK106AF; Note: *; Supplier: Digi-Key; Supplier part number: TCK106AFLFCT-ND; 2nd source Supplier: *; 2nd source part number: *
footprint SOT95P280X140-5N
pins: 1 VOUT (power), 2 GND (power), 3 CTRL (in), 4 NC, 5 VIN (power)

## Testpoint TH
designator TP?, comment TP  (value not drawn)  (no BOM)
Testpoint, through hole; Part Number: Testpoint TH; Artikkelnr Noca: N.A.; Manufacturer: *; Manufacturer Part Number: *; Datasheet: *; Footprint Doc: TESTPAD-TH; LatestRevisionDate: 2009-12-12; Pin Count: 1; Publisher: Nordic Semiconductor; Published: 2009-12-12; Value: TP; Note: *; Supplier: *; Supplier part number: *; 2nd source Supplier: *; 2nd source part number: *; Artikkelnr Simpro: N.A.
footprint TESTPAD-TH
pins: 1

## TP_SMD_Ø1.0MM
designator TP?, comment Ø1.0mm,SMD  (value not drawn)  (no BOM)
1.0mm circular SMD testpad; Part Number: TP_SMD_Ø1.0MM; Manufacturer: Nordic Semiconductor; Artikkelnr Noca: N.A.; Manufacturer Part Number: *; Datasheet: *; LatestRevisionDate: 2013-06-11; Pin Count: 1; Publisher: Nordic Semiconductor; Published: 2013-06-11; Value: Ø1.0mm,SMD; Note: *; Supplier: *; Supplier part number: *; 2nd source Supplier: *; 2nd source part number: *; Footprint Doc: TP_SMD_Ø1.0mm; Artikkelnr Simpro: N.A.
footprint TP_SMD_Ø1.0mm
pins: 1

## XC923xD/F08xER
designator U?, comment XC9236
600mA Driver Transistor Built-In, Synchronous Step-Down DC/DC Converters; Part Number: XC9236F08CER-G; Manufacturer: Torex Semiconductor; Artikkelnr Noca: 17030085; Artikkelnr Simpro: N.A.; Manufacturer Part Number: XC9236F08CER-G; Datasheet: http://www.torexsemi.com/products/dcdc_converters/data/XC9235~37.pdf; Footprint Doc: USP-6C; LatestRevisionDate: 2016-08-08; Pin Count: 6; Publisher: Nordic Semiconductor; Published: 2016-08-08; Value: XC9236; Note: *; Supplier: Mouser; Supplier part number: 865-XC9236F08CER-G; 2nd source Supplier: *; 2nd source part number: *
footprint USP-6C
pins: 1 LX, 2 VSS (power), 3 FB (power), 4 CE/MODE (in), 5 VSS (power), 6 VIN (power), 7 VSS (power) hidden to GND

## XC9131
designator U?
1A Driver Transistor Built-In, Multi Functional Step-Up DC/DC Converter; Part Number: XC9131H05CDR-G; Manufacturer: Torex Semiconductor; Artikkelnr Noca: 17030086; Artikkelnr Simpro: N.A.; Manufacturer Part Number: XC9131H05CDR-G; Datasheet: http://www.torexsemi.com/products/dcdc_converters/data/XC9131.pdf; Footprint Doc: UFDFN-10; LatestRevisionDate: 2016-08-08; Pin Count: 10; Publisher: Nordic Semiconductor; Published: 2016-08-08; Value: XC9131; Note: *; Supplier: Digi-Key; Supplier part number: XC9131H05CDR-G-ND; 2nd source Supplier: *; 2nd source part number: *
footprint 10-USPB (2.9x2.6)
pins: 1 BAT, 2 LX, 3 CDD, 4 MODE, 5 FO, 6 EN, 7 FB, 8 AGND, 9 PGND, 10 VOUT, 11 GND (power) hidden to GND

## XTAL_SMD2016
designator X?, comment 32MHz
XTAL SMD 2016, 32MHz, Cl=8pF, Tol: ±10ppm, Stab: ±10ppm; Part Number: XTAL_SMD2016_32MHz_8pF_Epson; Manufacturer: Epson Toyocom; Manufacturer Part Number: Q22FA12800025; Note: XTAL SMD 32.000MHz; Artikkelnr Noca: 22019238; Artikkelnr Simpro: N.A.; Datasheet: http://www.epsondevice.com/docs/qd/en/DownloadServlet?id=ID000449; LatestRevisionDate: 2014-11-27; Pin Count: 4; Publisher: Nordic Semiconductor; Published: 2012-03-09; Value: 32MHz; Supplier: Farnell; Supplier part number: 171-2806; 2nd source Supplier: *; 2nd source part number: *; Footprint Doc: XTAL_2016
footprint BT-XTAL_2016
pins: 1 inp, 2 GND hidden to GND, 3 out, 4 GND hidden to GND

## XTAL_SMD3215
designator X?, comment 32.768kHz
XTAL SMD 3215, 32.768kHz, 9pF, ±20ppm, -40°C ~ 125°C; Part Number: XTAL_SMD3215_32.768kHz_9pF_Kyocera_HT; Manufacturer: Kyocera; Manufacturer Part Number: ST3215SB32768E0HSZB1; Note: XTAL SMD 32.768kHz; Artikkelnr Noca: 22019249; Artikkelnr Simpro: N.A.; Datasheet: http://media.digikey.com/pdf/Data%20Sheets/AVX%20PDFs/ST3215SB_Series.pdf; LatestRevisionDate: 2015-10-15; Pin Count: 2; Publisher: Nordic Semiconductor; Published: 2015-06-10; Value: 32.768kHz; Supplier: Digi-Key; Supplier part number: 1253-1402-1-ND; 2nd source Supplier: *; 2nd source part number: *; Footprint Doc: XTAL_3215
footprint XTAL_3215
pins: 1 inp, 2 out

## XTAL_SMD3225
designator X?, comment 12MHz
XTAL SMD 3225, 12MHz, Cl=18pF, Tol: ±30ppm, Stab: ±30ppm; Part Number: XTAL_SMD3225_12MHz_18pF_TXC; Manufacturer: TXC Corporation; Manufacturer Part Number: 7M-12.000MAAJ-T; 2nd source part number: 184-2056; Note: XTAL SMD 12.000MHz; Artikkelnr Noca: 22019166; Artikkelnr Simpro: N.A.; Datasheet: http://www.txccrystal.com/images/pdf/7m.pdf; LatestRevisionDate: 2014-11-27; Pin Count: 4; Publisher: Nordic Semiconductor; Published: 2010-08-31; Value: 12MHz; Supplier: Digi-Key; Supplier part number: 887-1121-1-ND; 2nd source Supplier: Farnell; Footprint Doc: XTAL_3225
footprint BT-XTAL_3225
pins: 1 inp, 2 GND hidden to GND, 3 out, 4 GND hidden to GND